# EAGLE library part L80_GNSS_MODULE (library CDC Library v130)
GPS module with an embedded patch antenna (15mmx15mmx4mm)
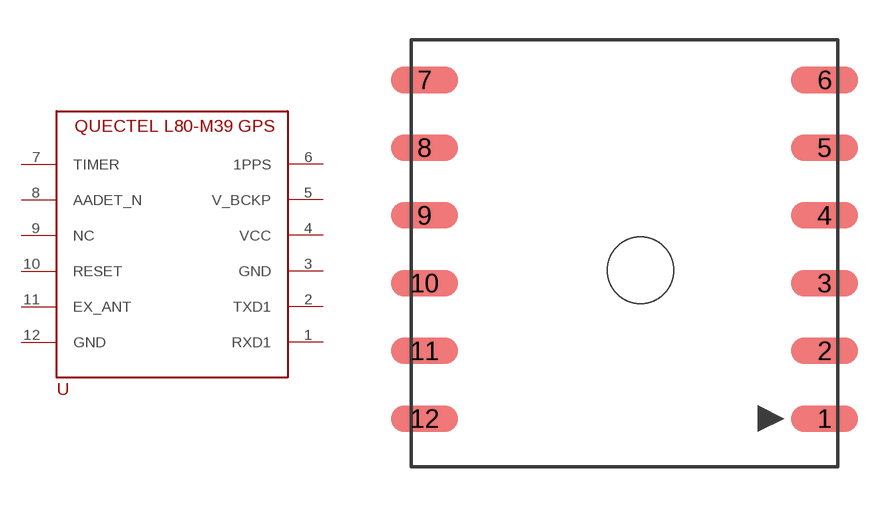
[diagram p12: symbol with the pads of L80_PACKAGE; footprint L80_PACKAGE]

Designator prefix -

## L80_GNSS_MODULE  [L80_PACKAGE]
1  RXD1
2  TXD1
3  GND
4  VCC
5  V_BCKP
6  1PPS
7  TIMER
8  AADET_N
9  NC
10  RESET
11  EX_ANT
12  GND

## Footprint L80_PACKAGE (pad centres in mm)
smd 2.5 x 1: 1 15.5,1.8; 2 15.5,4.34; 3 15.5,6.88; 4 15.5,9.42; 5 15.5,11.96; 6 15.5,14.5; 7 0.5,14.5; 8 0.5,11.96; 9 0.5,9.42; 10 0.5,6.88; 11 0.5,4.34; 12 0.5,1.8
hole 2.5 at 8.6,7.37